# EAGLE library part SW_DP_ (library _mtvl.switch)
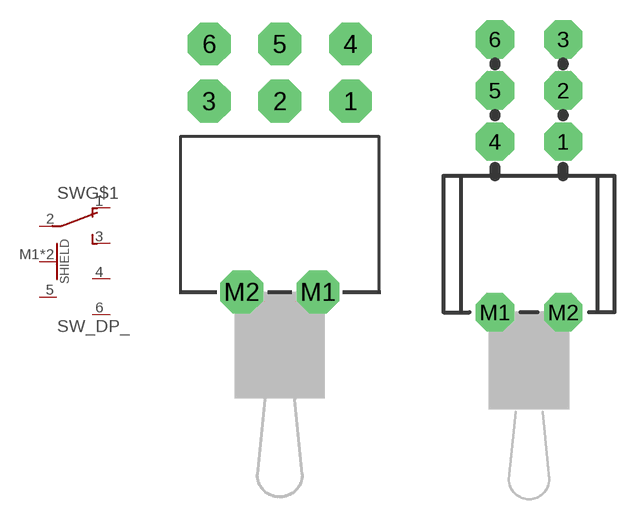
[diagram p2: symbol with the pads of MTS-203-C3; footprints MTS-203-C3, MTS-2XX-C4]

Designator prefix SW; gates G$1=DPDT G$1S=SHIELD

## SW_DP_RH  [MTS-203-C3]
1  G$1:1  pas
2  G$1:2  pas
3  G$1:3  pas
4  G$1:4  pas
5  G$1:5  pas
6  G$1:6  pas
M1  G$1S:SHIELD  pas
M2  G$1S:SHIELD  pas

## SW_DP_RV  [MTS-2XX-C4]
Pads as for MTS-203-C3

## Footprint MTS-203-C3 (pad centres in mm)
MTS-2XX-C3 Jietong Switch
drill 1.9 octagon: 1 4.7,12.7; 2 0,12.7; 3 -4.7,12.7; 4 4.7,16.51; 5 0,16.51; 6 -4.7,16.51; M1 2.54,0; M2 -2.54,0

## Footprint MTS-2XX-C4 (pad centres in mm)
MTS-2XX-C4 Jietong Switch
drill 1.9 octagon: 1 2.54,12.62; 2 2.54,16.43; 3 2.54,20.24; 4 -2.54,12.62; 5 -2.54,16.43; 6 -2.54,20.24; M1 -2.54,-0.08; M2 2.54,-0.08